# Altium schematic symbol library VS-5EWH06FN-M3.Schlib: 1 symbol
Pins are listed as number, name and electrical type; pins without a type are passive.

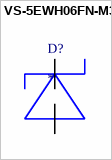
[diagram p0: symbol VS-5EWH06FN-M3]

## VS-5EWH06FN-M3
designator D?
Diode Switching 600V 5A DPAK
pins: IN, OUT